# Altium schematic symbol library MUX36D04.SchLib: 1 symbol
Pins are listed as number, name and electrical type; pins without a type are passive.

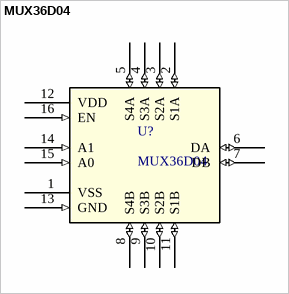
[diagram p0: symbol MUX36D04]

## MUX36D04
designator U?
1-pA on-state leakage current, 36-V, 4:1, 2-channel precision analog multiplexer; Manufacturer_Part_Number: MUX36D04IRUMR; Built_By: EMA_April; Vendor: Texas Instruments; SourceLibrary: TI_2020-05-18; Copyright: Copyright (C) 2018 Accelerated Designs. All rights reserved; RefDes: RefDes; Type: DEV; ComponentLink1Description: Product Page; ComponentLink1URL: https://www.ti.com/product/MUX36D04
footprint RUM16_TEX
pins: 1 VSS (power), 2 S1A (io), 3 S2A (io), 4 S3A (io), 5 S4A (io), 6 DA (io), 7 DB (io), 8 S4B (io), 9 S3B (io), 10 S2B (io), 11 S1B (io), 12 VDD (power), 13 GND (in), 14 A1 (in), 15 A0 (in), 16 EN (in)